# EAGLE library part BTN7960B (library BTN7960)
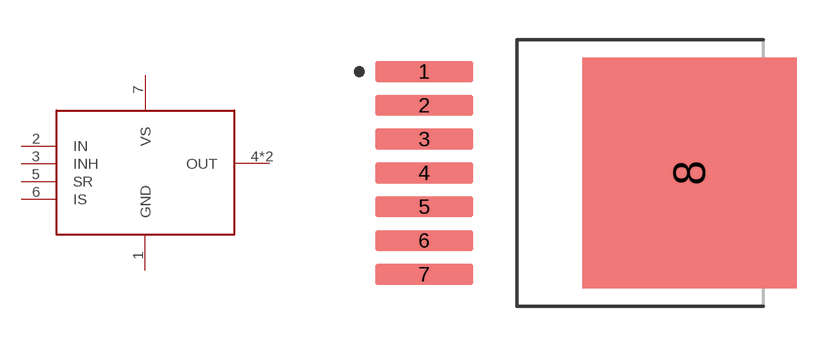
[diagram p0: symbol with the pads of DPAK127P1500X440-8N; footprint DPAK127P1500X440-8N]

Designator prefix -

## BTN7960B  [DPAK127P1500X440-8N]
1  GND  pwr
2  IN  in
3  INH  in
4  OUT  out
5  SR
6  IS
7  VS  pwr
8  OUT  out

## Footprint DPAK127P1500X440-8N (pad centres in mm)
smd 3.67 x 0.79: 1 -6.07,3.81; 2 -6.07,2.54; 3 -6.07,1.27; 4 -6.07,0; 5 -6.07,-1.27; 6 -6.07,-2.54; 7 -6.07,-3.81
smd 8.04 x 8.67: 8 3.89,0